# Altium footprint library MAX232Lib.PcbLib: 10 footprints
Each footprint in its own frame and in the unit in brackets; x right, y up, seen from the top. Pads: shape width x height; smd on the part's side, far side on the other; paste and mask are expansions set on the pad; w line width, h text height; cw(c..) or ccw(c..) is an arc to the next point about the centre after c.
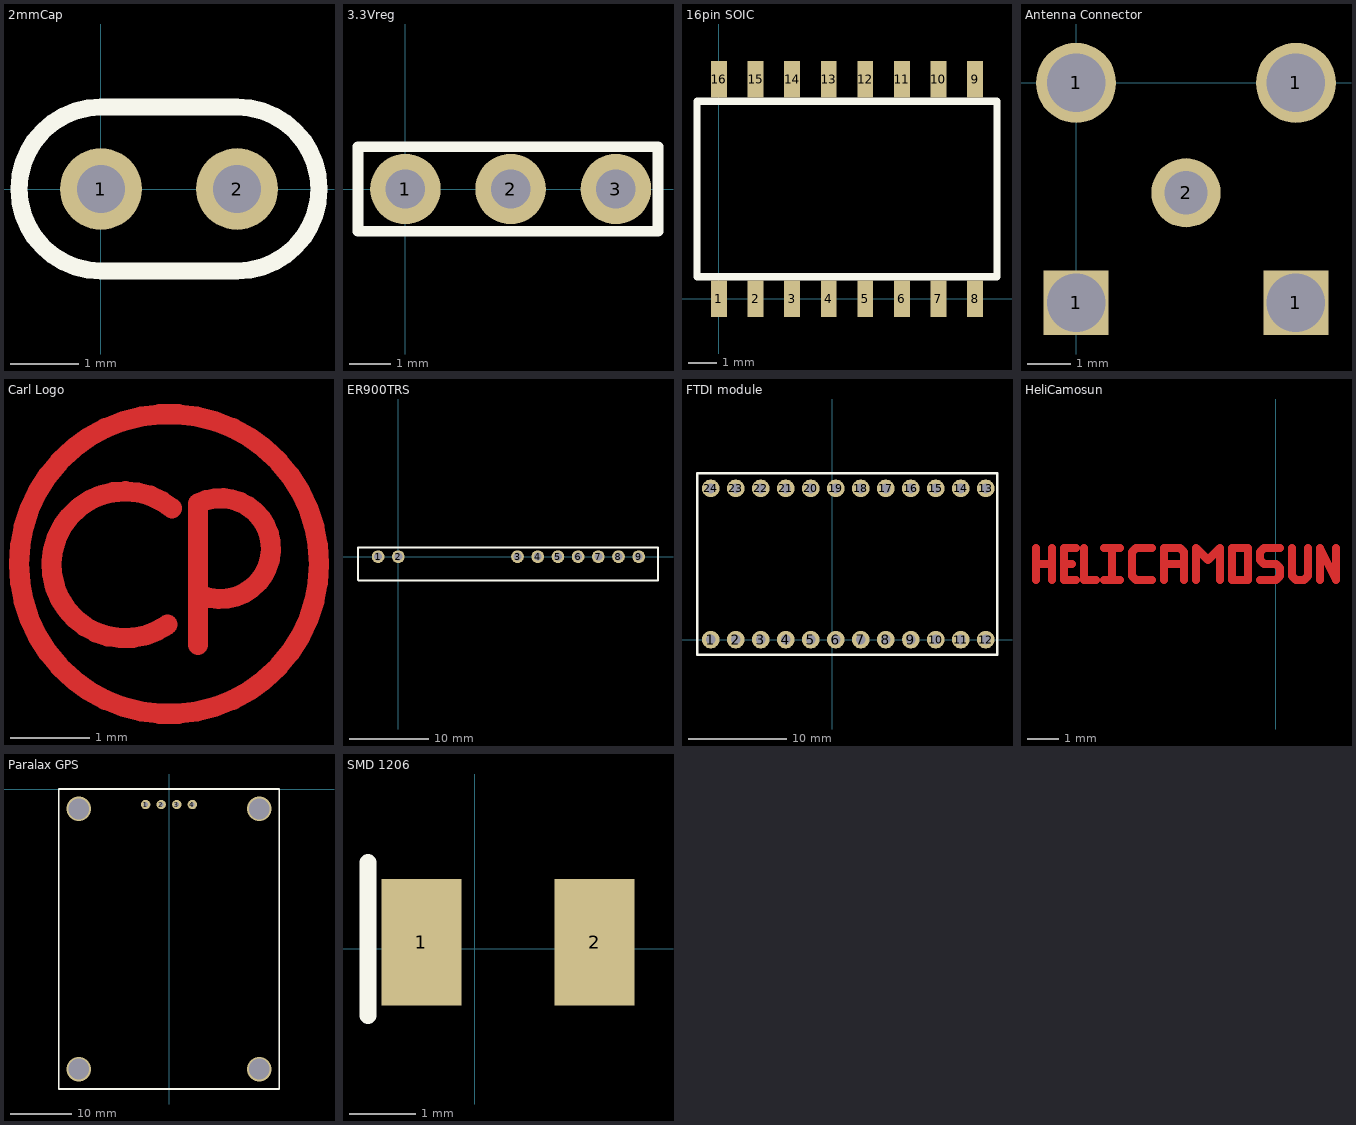
[diagram p0: the footprints below, top view; thin cyan lines are the x and y axes]

## 2mmCap [mm] "2mm Cap (Thru hole)"
height 3.56
pads (2):
  round 1.2 hole 0.7: 1(0,0) 2(2,0)
Top Overlay:
  lines w0.254: 0,-1.204 cw(c0,0) 0,1.204 2,1.204 cw(c2,0) 2,-1.204 0,-1.204

## 3.3Vreg [mm] "3.3Vreg (LD1085V33)"
height 15.75
pads (3):
  round 1.7 hole 0.95: 1(0,0) 2(2.54,0) 3(5.08,0)
Top Overlay:
  lines w0.254: -1.143,-1.016 -1.143,1.016 6.096,1.016 6.096,-1.016 -1.143,-1.016

## 16pin SOIC [mm] "16pin SOIC"
height 3
pads (16):
  rect 0.55x1.27 smd: 1(0,0) 2(1.27,0) 3(2.54,0) 4(3.81,0) 5(5.08,0) 6(6.35,0) 7(7.62,0) 8(8.89,0) 9(8.89,7.62) 10(7.62,7.62) 11(6.35,7.62) 12(5.08,7.62) 13(3.81,7.62) 14(2.54,7.62) 15(1.27,7.62) 16(0,7.62)
Top Overlay:
  lines w0.254: -0.762,0.762 -0.762,6.858 9.652,6.858 9.652,0.762 -0.762,0.762

## Antenna Connector [mm] "Antenna Connector"
height 9.55
pads (5):
  rect 1.5x1.5 hole 1.35: 1(0,-5.08) 1(5.08,-5.08)
  round 1.85 hole 1.35: 1(0,0) 1(5.08,0)
  round 1.6 hole 1: 2(2.54,-2.54)

## Carl Logo [mm] "My personal Logo"
height 0.1
Top Layer:
  circle w0.254: c7.002,-7.112 r1.888
  lines w0.254: 6.985,-7.874 cw(c6.448,-7.122) 7.039,-6.411 ; 7.366,-8.128 7.366,-6.35 cw(c7.65,-6.918) 7.412,-7.507

## ER900TRS [mm] "Easy Radio 900MHz"
height 16
pads (9):
  round 1.6 hole 1: 1(-2.54,0) 2(0,0) 3(15,0) 4(17.54,0) 5(20.08,0) 6(22.62,0) 7(25.16,0) 8(27.7,0) 9(30.24,0)
Top Overlay:
  lines w0.254: -5.07,-2.95 -5.07,1.16 32.67,1.16 32.67,-3 -5.02,-3

## FTDI module [mm] "FTDI module"
height 22
pads (24):
  round 1.8 hole 1: 1(-12.319,0) 2(-9.779,0) 3(-7.239,0) 4(-4.699,0) 5(-2.159,0) 6(0.381,0) 7(2.921,0) 8(5.461,0) 9(8.008,0) 10(10.541,0) 11(13.081,0) 12(15.621,0) 13(15.621,15.367) 14(13.081,15.367) 15(10.541,15.367) 16(8.001,15.367) 17(5.461,15.367) 18(2.921,15.367) 19(0.381,15.367) 20(-2.159,15.367) 21(-4.699,15.367) 22(-7.239,15.367) 23(-9.779,15.367) 24(-12.319,15.367)
Top Overlay:
  lines w0.254: -13.716,-1.524 16.764,-1.524 16.764,16.891 -13.716,16.891 -13.716,-1.524

## HeliCamosun [mm] "HeliCamosun Logo"
height 1
Top Layer:
  lines w0.254: -7.62,7.62 -7.62,8.636 ; -7.62,8.128 -7.239,8.128 ; -7.112,7.62 -7.112,8.636 ; -6.731,8.128 -6.477,8.128 ; -6.35,7.62 -6.731,7.62 -6.731,8.636 -6.35,8.636 ; -6.096,8.636 -6.096,7.62 -5.715,7.62 ; -5.461,7.62 -4.953,7.62 ; -5.461,8.636 -4.953,8.636 ; -5.207,7.62 -5.207,8.636 ; -3.937,7.62 -4.445,7.62 -4.572,7.747 -4.572,8.509 -4.445,8.636 -3.937,8.636 ; -3.556,7.62 -3.556,8.636 -3.048,8.636 -2.921,8.509 -2.921,7.62 ; -3.556,8.128 -2.921,8.128 ; -2.54,7.62 -2.54,8.636 -2.159,8.255 -1.778,8.636 -1.778,7.62 ; -0.508,7.62 0,7.62 0.127,7.747 0.127,8.001 0,8.128 -0.381,8.128 -0.508,8.255 -0.508,8.509 -0.381,8.636 0.127,8.636 ; 0.508,8.636 0.508,7.747 0.635,7.62 0.889,7.62 1.016,7.747 1.016,8.636 ; 1.397,7.62 1.397,8.636 1.905,7.62 1.905,8.636 ; -1.397,7.62 -0.889,7.62 -0.889,8.636 -1.397,8.636 -1.397,7.62

## Paralax GPS [mil] "Paralax GPS"
height 584.25
pads (4):
  round 60 hole 30: 1(-150,-100) 2(-50,-100) 3(50,-100) 4(150,-100)
via -580.71,-1801.18 diameter 157.48 hole 133.86
via 580.71,-1801.18 diameter 157.48 hole 133.86
via 580.71,-127.95 diameter 157.48 hole 133.86
via -580.71,-127.95 diameter 157.48 hole 133.86
Top Overlay:
  lines w10: -708.66,-1929.13 -708.66,0 708.66,0 708.66,-1929.13 -708.66,-1929.13

## SMD 1206 [mm] "SMD 1206"
height 0.77
pads (2):
  rect 1.2x1.9 smd: 1(-0.8,0.1) 2(1.8,0.1)
Top Overlay:
  lines w0.254: -1.6,-1 -1.6,1.3